# Altium integrated library TI Audio CODEC.IntLib: 199 symbols (part 3 of 17)
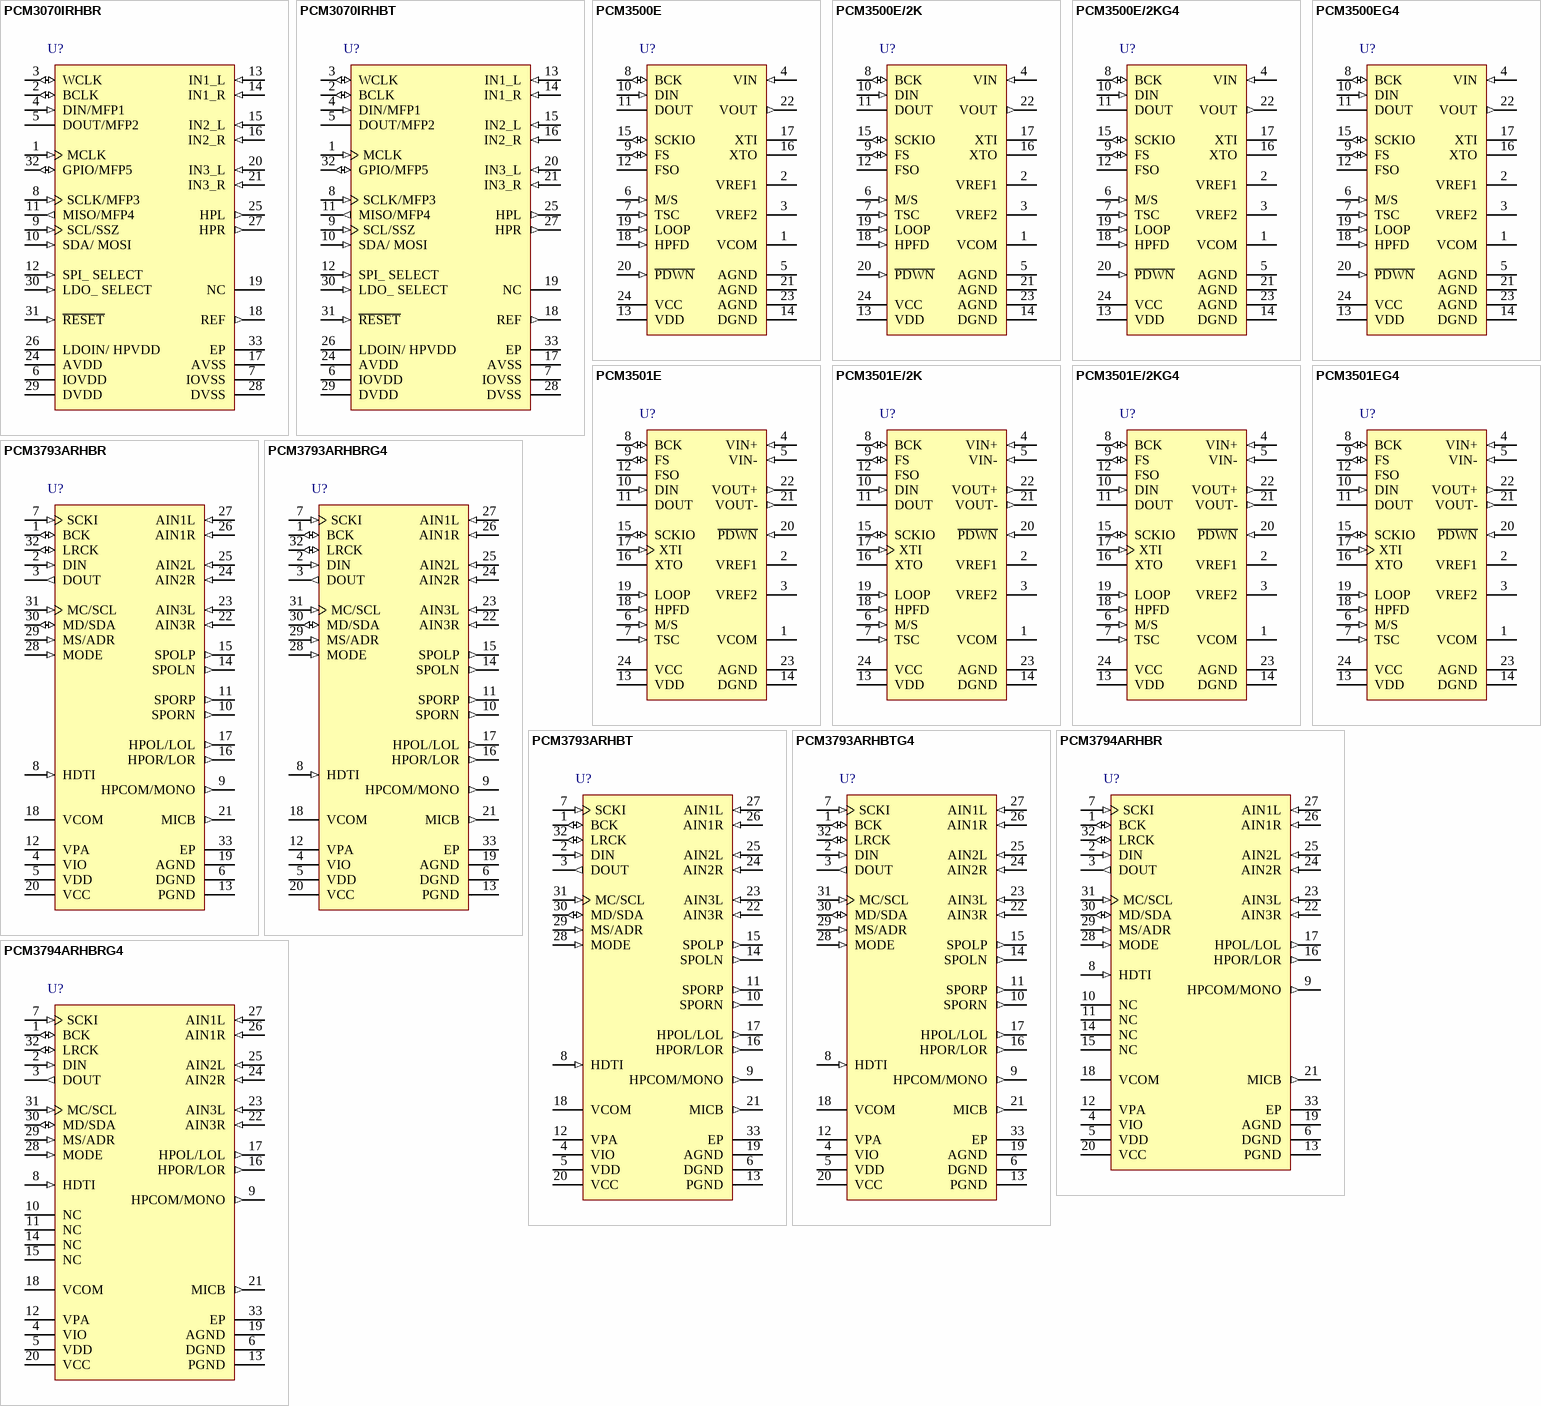
[diagram p15: symbols PCM3070IRHBR to PCM3794ARHBRG4]

## PCM3070IRHBR
designator U?
Stereo Audio CODEC with Embedded miniDSP, 2 ADCs and 2 DACs, 93 dB DAC SNR, 32-pin QFN (RHB), Green (RoHS & no Sb/Br); Manufacturer: Texas Instruments; PartNumber: PCM3070IRHBR; # ADCs (typ): 2; Additional Features: MiniDSP, Extensive Signal Processing Options, Programmable PLL, LDO (for single supply operation up to 3.6V); Control Interface: SPI, I2C; DAC SNR: 93; Digital Audio Interfaces: L, R, I2S, TDM, DSP; Line Powered: TRUE; Sampling Rate (Max) (kHz): 192; DatasheetVersion: SLAS724; PackageVersion: revD, Jun-2011; PackageReference: RHB32-3450X3450TP; PackageDescription: 32-Pin Plastic Quad Flat No-Lead, 5 x 5 mm Body, 0.5 mm Pitch, 3.45 x 3.45 mm Exposed Pad; Supplier 1: Digi-Key; Supplier Part Number 1: PCM3070IRHBR-ND; Supplier 2: Newark; Supplier Part Number 2: 32T2989; Supplier 3: Mouser; Supplier Part Number 3: 595-PCM3070IRHBR; # DACs: 2; Mounting Technology: Surface Mount; Code_JEDEC: MO-220; ComponentLink1Description: Datasheet; ComponentLink1URL: http://www.ti.com/general/docs/lit/getliterature.tsp?genericPartNumber=PCM3070&fileType=pdf
footprint RHB32-3450X3450TP (QFN, 32-Leads, Body 5x5mm, Pitch 0.5mm, Thermal Pad 3.45x3.45mm, TI Recommended)
pins: 1 MCLK (in) "Master Clock Input.", 2 BCLK (io) "Audio serial data bus (primary) bit clock.", 3 WCLK (io) "Audio serial data bus (primary) word clock.", 4 DIN/MFP1 (in) "Primary function,Audio serial data bus data input.Secondary function,Audio serial data bus (secondary) bit clock input Audio serial data bus (secondary) word clock input Clock Input General Purpose Input.", 5 DOUT/MFP2 (hiz) "Primary,Audio serial data bus data output.Secondary,General Purpose Output Clock Output INT1 Output INT2 Output Audio serial data bus (secondary) bit clock output Audio serial data bus (secondary) word clock output.", 6 IOVDD (power) "I/O voltage supply 1.1V - 3.6V.", 7 IOVSS (power) "I/O ground supply.", 8 SCLK/MFP3 (in) "Primary (SPI_Select = 1),SPI serial clock. Secondary: (SPI_Select = 0),Audio serial data bus (secondary) bit clock input Audio serial data bus (secondary) DAC/common word clock input Audio serial data bus (secondary) ADC (See Datasheet)", 9 SCL/SSZ (in) "I2C interface serial clock (SPI_Select = 0) SSZ SPI interface mode chip-select signal (SPI_Select = 1).", 10 SDA/ MOSI (in) "I2C interface mode serial data input (SPI_Select = 0). SPI interface mode serial data input (SPI_Select = 1).", 11 MISO/MFP4 (out) "Primary (SPI_Select = 1),Serial data output.Secondary (SPI_Select = 0),General purpose output CLKOUT output INT1 output INT2 output Audio serial data bus (primary) ADC word clock output Audio serial data bus (secondary) data (See Datasheet)", 12 SPI_ SELECT (in) "Control mode select pin ( 1 = SPI, 0 = I2C ).", 13 IN1_L (in) "Multifunction Analog Input, or Single-ended configuration: Line 1 left or Differential configuration: Line right, negative.", 14 IN1_R (in) "Multifunction Analog Input, or Single-ended configuration: or Line 1 right or Differential configuration: Line right, positive.", 15 IN2_L (in) "Multifunction Analog Input, or Single-ended configuration: Line 2 right or Differential configuration: Line left, positive.", 16 IN2_R (in) "Multifunction Analog Input, or Single-ended configuration: Line 2 right or Differential configuration: Line left, negative.", 17 AVSS (power) "Analog ground supply.", 18 REF (out) "Reference voltage output for filtering.", 19 NC "NC, do not connect.", 20 IN3_L (in) "Multifunction Analog Input, or Single-ended configuration: Line 3 left, or Differential configuration: Line left, positive, or Differential configuration: Line right, negative.", 21 IN3_R (in) "Multifunction Analog Input, or Single-ended configuration: Line 3 right, or Differential configuration: Line left, negative, or Differential configuration: Line right, positive.", 24 AVDD (power) "Analog voltage supply 1.5V-1.95V Input when A-LDO disabled, Filtering output when A-LDO enabled.", 25 HPL (out) "Left high power output driver.", 26 LDOIN/ HPVDD (power) "LDO Input supply and Headphone Power supply 1.9V- 3.6V.", 27 HPR (out) "Right high power output driver.", 28 DVSS (power) "?Digital Ground and Chip-substrate.", 29 DVDD (power) "If LDO_SELECT Pin = 0 (D-LDO disabled) Digital voltage supply 1.26V - 1.95V If LDO_SELECT Pin = 1 (D-LDO enabled) Digital voltage supply filtering output.", 30 LDO_ SELECT (in) "connect to DVss.", 31 ~{RESET} (in) "Reset (active low).", 32 GPIO/MFP5 (io) "Primary,General Purpose digital IO.Secondary,CLKOUT Output INT1 Output INT2 Output Audio serial data bus ADC word clock output Audio serial data bus (secondary) bit clock output Audio serial data bus (secondary) word clock (See Datasheet)", 33 EP "Exposed thermal pad."

## PCM3070IRHBT
designator U?
Stereo Audio CODEC with Embedded miniDSP, 2 ADCs and 2 DACs, 93 dB DAC SNR, 32-pin QFN (RHB), Green (RoHS & no Sb/Br); Manufacturer: Texas Instruments; PartNumber: PCM3070IRHBT; # ADCs (typ): 2; Additional Features: MiniDSP, Extensive Signal Processing Options, Programmable PLL, LDO (for single supply operation up to 3.6V); Control Interface: SPI, I2C; DAC SNR: 93; Digital Audio Interfaces: L, R, I2S, TDM, DSP; Line Powered: TRUE; Sampling Rate (Max) (kHz): 192; DatasheetVersion: SLAS724; PackageVersion: revD, Jun-2011; PackageReference: RHB32-3450X3450TP; PackageDescription: 32-Pin Plastic Quad Flat No-Lead, 5 x 5 mm Body, 0.5 mm Pitch, 3.45 x 3.45 mm Exposed Pad; Supplier 1: Digi-Key; Supplier Part Number 1: 296-28298-2-ND; Supplier 2: Digi-Key; Supplier Part Number 2: 296-28298-1-ND; Supplier 3: Digi-Key; Supplier Part Number 3: 296-28298-6-ND; Supplier 4: Farnell; Supplier Part Number 4: 1882269; Supplier 5: Newark; Supplier Part Number 5: 32T2990; Supplier 6: Mouser; Supplier Part Number 6: 595-PCM3070IRHBT; # DACs: 2; Mounting Technology: Surface Mount; Code_JEDEC: MO-220; ComponentLink1Description: Datasheet; ComponentLink1URL: http://www.ti.com/general/docs/lit/getliterature.tsp?genericPartNumber=PCM3070&fileType=pdf
footprint RHB32-3450X3450TP (QFN, 32-Leads, Body 5x5mm, Pitch 0.5mm, Thermal Pad 3.45x3.45mm, TI Recommended)
pins: 1 MCLK (in) "Master Clock Input.", 2 BCLK (io) "Audio serial data bus (primary) bit clock.", 3 WCLK (io) "Audio serial data bus (primary) word clock.", 4 DIN/MFP1 (in) "Primary function,Audio serial data bus data input.Secondary function,Audio serial data bus (secondary) bit clock input Audio serial data bus (secondary) word clock input Clock Input General Purpose Input.", 5 DOUT/MFP2 (hiz) "Primary,Audio serial data bus data output.Secondary,General Purpose Output Clock Output INT1 Output INT2 Output Audio serial data bus (secondary) bit clock output Audio serial data bus (secondary) word clock output.", 6 IOVDD (power) "I/O voltage supply 1.1V - 3.6V.", 7 IOVSS (power) "I/O ground supply.", 8 SCLK/MFP3 (in) "Primary (SPI_Select = 1),SPI serial clock. Secondary: (SPI_Select = 0),Audio serial data bus (secondary) bit clock input Audio serial data bus (secondary) DAC/common word clock input Audio serial data bus (secondary) ADC (See Datasheet)", 9 SCL/SSZ (in) "I2C interface serial clock (SPI_Select = 0) SSZ SPI interface mode chip-select signal (SPI_Select = 1).", 10 SDA/ MOSI (in) "I2C interface mode serial data input (SPI_Select = 0). SPI interface mode serial data input (SPI_Select = 1).", 11 MISO/MFP4 (out) "Primary (SPI_Select = 1),Serial data output.Secondary (SPI_Select = 0),General purpose output CLKOUT output INT1 output INT2 output Audio serial data bus (primary) ADC word clock output Audio serial data bus (secondary) data (See Datasheet)", 12 SPI_ SELECT (in) "Control mode select pin ( 1 = SPI, 0 = I2C ).", 13 IN1_L (in) "Multifunction Analog Input, or Single-ended configuration: Line 1 left or Differential configuration: Line right, negative.", 14 IN1_R (in) "Multifunction Analog Input, or Single-ended configuration: or Line 1 right or Differential configuration: Line right, positive.", 15 IN2_L (in) "Multifunction Analog Input, or Single-ended configuration: Line 2 right or Differential configuration: Line left, positive.", 16 IN2_R (in) "Multifunction Analog Input, or Single-ended configuration: Line 2 right or Differential configuration: Line left, negative.", 17 AVSS (power) "Analog ground supply.", 18 REF (out) "Reference voltage output for filtering.", 19 NC "NC, do not connect.", 20 IN3_L (in) "Multifunction Analog Input, or Single-ended configuration: Line 3 left, or Differential configuration: Line left, positive, or Differential configuration: Line right, negative.", 21 IN3_R (in) "Multifunction Analog Input, or Single-ended configuration: Line 3 right, or Differential configuration: Line left, negative, or Differential configuration: Line right, positive.", 24 AVDD (power) "Analog voltage supply 1.5V-1.95V Input when A-LDO disabled, Filtering output when A-LDO enabled.", 25 HPL (out) "Left high power output driver.", 26 LDOIN/ HPVDD (power) "LDO Input supply and Headphone Power supply 1.9V- 3.6V.", 27 HPR (out) "Right high power output driver.", 28 DVSS (power) "?Digital Ground and Chip-substrate.", 29 DVDD (power) "If LDO_SELECT Pin = 0 (D-LDO disabled) Digital voltage supply 1.26V - 1.95V If LDO_SELECT Pin = 1 (D-LDO enabled) Digital voltage supply filtering output.", 30 LDO_ SELECT (in) "connect to DVss.", 31 ~{RESET} (in) "Reset (active low).", 32 GPIO/MFP5 (io) "Primary,General Purpose digital IO.Secondary,CLKOUT Output INT1 Output INT2 Output Audio serial data bus ADC word clock output Audio serial data bus (secondary) bit clock output Audio serial data bus (secondary) word clock (See Datasheet)", 33 EP "Exposed thermal pad."

## PCM3500E
designator U?
Low Voltage, Low Power, 16-bit, Mono SoundPlus™ Voice / Modem CODEC with 1 ADC and 1 DAC, 92 dB DAC SNR, 24-pin SSOP (DB), Green (RoHS & no Sb/Br); Manufacturer: Texas Instruments; PartNumber: PCM3500E; # ADCs (typ): 1; Additional Features: Single-ended Inputs/Outputs; Battery Powered: TRUE; Control Interface: H/W; DAC SNR: 92; Digital Audio Interfaces: DSP; Sampling Rate (Max) (kHz): 26; DatasheetVersion: SBAS117; PackageVersion: revE, Dec-2001; PackageReference: DB24; PackageDescription: 24-Pin Plastic Small Outline Package, 8.2 x 5.3 mm Body, 0.65 mm Pitch; Supplier 1: Digi-Key; Supplier Part Number 1: PCM3500E-ND; Supplier 2: Newark; Supplier Part Number 2: 34K8602; Supplier 3: Mouser; Supplier Part Number 3: 595-PCM3500E; # DACs: 1; Mounting Technology: Surface Mount; Code_JEDEC: MO-150; ComponentLink1Description: Datasheet; ComponentLink1URL: http://www.ti.com/general/docs/lit/getliterature.tsp?genericPartNumber=PCM3500&fileType=pdf
footprint DB24_N (SOP, 24-Leads, Body 8.2x5.3mm, Pitch 0.65mm, IPC Medium Density)
footprint DB24_L (SOP, 24-Leads, Body 8.2x5.3mm, Pitch 0.65mm, IPC High Density)
footprint DB24_M (SOP, 24-Leads, Body 8.2x5.3mm, Pitch 0.65mm, IPC Low Density)
pins: 1 VCOM "Common-Mode Voltage (0.5VCC). This pin should be connected to ground through a capacitor.", 2 VREF1 "Decouple Pin for Reference Voltage 1 (0.99VCC). This pin should be connected to ground through a capacitor.", 3 VREF2 "Decouple Pin for Reference Voltage 2 (0.2VCC). This pin should be connected to ground through a capacitor.", 4 VIN (in) "Analog Input for the ADC.", 5 AGND (power) "Analog Ground for the ADC Input Signal.", 6 M/S (in) "Master/Slave Select. This pin is used to determine the operating mode for the serial interface. A logic ‘0’ on this pin selects the Slave Mode.A logic '1' on this pin selects the Master Mode.", 7 TSC (in) "Time Slot Mode Control. This pin is used to select the time slot operating mode. A logic ‘0’ on this pin disables Time Slot Mode. A logic  '1' on this pin enables Time Slot Mode.", 8 BCK (io) "Bit Clock. This pin serves as the bit (or shift) clock for the serial interface. This pin is an input in Slave Mode and an output in Master  Mode.", 9 FS (io) "Frame Sync. This pin serves as the frame synchronization clock for the serial interface. This pin is an input in Slave Mode and an output in Master Mode.", 10 DIN (in) "Serial Data Input. This pin is used to write 16-bit data to the DAC.", 11 DOUT (hiz) "Serial Data Output. The ADC outputs 16-bit data on this pin.", 12 FSO (hiz) "Frame Sync Output. Active only when Time Slot Mode is enabled. This pin is set to a high impedance state when Time Slot mode is disabled(TSC=0).", 13 VDD (power) "Digital Power Supply. Used to power the digital section of the ADC and DAC, as well as the serial interface and mode control logic.This pin is not internally connected to VCC.", 14 DGND (power) "Digital Ground. Internally connected through the substrate to analog ground.", 15 SCKIO (io) "System Clock Input/Output. This pin is a system clock output when using the crystal oscillator or XTI as the system clock input; when XTI is connected to ground,this pin is a system clock input.", 16 XTO "Crystal Oscillator Output.", 17 XTI "Crystal Oscillator Input or an External System Clock Input.", 18 HPFD (in) "High-Pass Filter Disable. When this pin is set to a logic ‘1’, the HPF function in the ADC is disabled.", 19 LOOP (in) "ADC-to-DAC Loop-Back Control. When this pin is set to logic ‘1’, the ADC data is fed to the DAC input.", 20 ~{PDWN} (in) "Power Down and Reset Control. When this pin is logic ‘0’, Power-Down Mode is enabled. The PCM3500 is reset on the rising edge of this signal.", 21 AGND (power) "Analog Ground for the DAC Output Signal.", 22 VOUT (out) "Analog Output from the DAC Output Filter.", 23 AGND (power) "Analog Ground. This is the ground for the internal analog circuitry.", 24 VCC (power) "Analog Power Supply. Used to power the analog circuitry of the ADC and DAC."

## PCM3500E/2K
designator U?
Low Voltage, Low Power, 16-bit, Mono SoundPlus™ Voice / Modem CODEC with 1 ADC and 1 DAC, 92 dB DAC SNR, 24-pin SSOP (DB), Green (RoHS & no Sb/Br); Manufacturer: Texas Instruments; PartNumber: PCM3500E/2K; # ADCs (typ): 1; Additional Features: Single-ended Inputs/Outputs; Battery Powered: TRUE; Control Interface: H/W; DAC SNR: 92; Digital Audio Interfaces: DSP; Sampling Rate (Max) (kHz): 26; DatasheetVersion: SBAS117; PackageVersion: revE, Dec-2001; PackageReference: DB24; PackageDescription: 24-Pin Plastic Small Outline Package, 8.2 x 5.3 mm Body, 0.65 mm Pitch; Supplier 1: Digi-Key; Supplier Part Number 1: PCM3500E/2K-ND; Supplier 2: Newark; Supplier Part Number 2: 75C5396; Supplier 3: Mouser; Supplier Part Number 3: 595-PCM3500E/2K; # DACs: 1; Mounting Technology: Surface Mount; Code_JEDEC: MO-150; ComponentLink1Description: Datasheet; ComponentLink1URL: http://www.ti.com/general/docs/lit/getliterature.tsp?genericPartNumber=PCM3500&fileType=pdf
footprint DB24_N (SOP, 24-Leads, Body 8.2x5.3mm, Pitch 0.65mm, IPC Medium Density)
footprint DB24_L (SOP, 24-Leads, Body 8.2x5.3mm, Pitch 0.65mm, IPC High Density)
footprint DB24_M (SOP, 24-Leads, Body 8.2x5.3mm, Pitch 0.65mm, IPC Low Density)
pins: 1 VCOM "Common-Mode Voltage (0.5VCC). This pin should be connected to ground through a capacitor.", 2 VREF1 "Decouple Pin for Reference Voltage 1 (0.99VCC). This pin should be connected to ground through a capacitor.", 3 VREF2 "Decouple Pin for Reference Voltage 2 (0.2VCC). This pin should be connected to ground through a capacitor.", 4 VIN (in) "Analog Input for the ADC.", 5 AGND (power) "Analog Ground for the ADC Input Signal.", 6 M/S (in) "Master/Slave Select. This pin is used to determine the operating mode for the serial interface. A logic ‘0’ on this pin selects the Slave Mode.A logic '1' on this pin selects the Master Mode.", 7 TSC (in) "Time Slot Mode Control. This pin is used to select the time slot operating mode. A logic ‘0’ on this pin disables Time Slot Mode. A logic  '1' on this pin enables Time Slot Mode.", 8 BCK (io) "Bit Clock. This pin serves as the bit (or shift) clock for the serial interface. This pin is an input in Slave Mode and an output in Master  Mode.", 9 FS (io) "Frame Sync. This pin serves as the frame synchronization clock for the serial interface. This pin is an input in Slave Mode and an output in Master Mode.", 10 DIN (in) "Serial Data Input. This pin is used to write 16-bit data to the DAC.", 11 DOUT (hiz) "Serial Data Output. The ADC outputs 16-bit data on this pin.", 12 FSO (hiz) "Frame Sync Output. Active only when Time Slot Mode is enabled. This pin is set to a high impedance state when Time Slot mode is disabled(TSC=0).", 13 VDD (power) "Digital Power Supply. Used to power the digital section of the ADC and DAC, as well as the serial interface and mode control logic.This pin is not internally connected to VCC.", 14 DGND (power) "Digital Ground. Internally connected through the substrate to analog ground.", 15 SCKIO (io) "System Clock Input/Output. This pin is a system clock output when using the crystal oscillator or XTI as the system clock input; when XTI is connected to ground,this pin is a system clock input.", 16 XTO "Crystal Oscillator Output.", 17 XTI "Crystal Oscillator Input or an External System Clock Input.", 18 HPFD (in) "High-Pass Filter Disable. When this pin is set to a logic ‘1’, the HPF function in the ADC is disabled.", 19 LOOP (in) "ADC-to-DAC Loop-Back Control. When this pin is set to logic ‘1’, the ADC data is fed to the DAC input.", 20 ~{PDWN} (in) "Power Down and Reset Control. When this pin is logic ‘0’, Power-Down Mode is enabled. The PCM3500 is reset on the rising edge of this signal.", 21 AGND (power) "Analog Ground for the DAC Output Signal.", 22 VOUT (out) "Analog Output from the DAC Output Filter.", 23 AGND (power) "Analog Ground. This is the ground for the internal analog circuitry.", 24 VCC (power) "Analog Power Supply. Used to power the analog circuitry of the ADC and DAC."

## PCM3500E/2KG4
designator U?
Low Voltage, Low Power, 16-Bit, Mono SoundPlus™ Voice / Modem CODEC with 1 ADC and 1 DAC, 92 dB DAC SNR, 24-pin SSOP (DB), Green (RoHS & no Sb/Br); Manufacturer: Texas Instruments; PartNumber: PCM3500E/2KG4; # ADCs (typ): 1; Additional Features: Single-ended Inputs/Outputs; Battery Powered: TRUE; Control Interface: H/W; DAC SNR: 92; Digital Audio Interfaces: DSP; Sampling Rate (Max) (kHz): 26; DatasheetVersion: SBAS117; PackageVersion: revE, Dec-2001; PackageReference: DB24; PackageDescription: 24-Pin Plastic Small Outline Package, 8.2 x 5.3 mm Body, 0.65 mm Pitch; Supplier 1: Digi-Key; Supplier Part Number 1: PCM3500E/2KG4-ND; Supplier 2: Newark; Supplier Part Number 2: 66K4101; Supplier 3: Mouser; Supplier Part Number 3: 595-PCM3500E/2KG4; # DACs: 1; Mounting Technology: Surface Mount; Code_JEDEC: MO-150; ComponentLink1Description: Datasheet; ComponentLink1URL: http://www.ti.com/general/docs/lit/getliterature.tsp?genericPartNumber=PCM3500&fileType=pdf
footprint DB24_N (SOP, 24-Leads, Body 8.2x5.3mm, Pitch 0.65mm, IPC Medium Density)
footprint DB24_L (SOP, 24-Leads, Body 8.2x5.3mm, Pitch 0.65mm, IPC High Density)
footprint DB24_M (SOP, 24-Leads, Body 8.2x5.3mm, Pitch 0.65mm, IPC Low Density)
pins: 1 VCOM "Common-Mode Voltage (0.5VCC). This pin should be connected to ground through a capacitor.", 2 VREF1 "Decouple Pin for Reference Voltage 1 (0.99VCC). This pin should be connected to ground through a capacitor.", 3 VREF2 "Decouple Pin for Reference Voltage 2 (0.2VCC). This pin should be connected to ground through a capacitor.", 4 VIN (in) "Analog Input for the ADC.", 5 AGND (power) "Analog Ground for the ADC Input Signal.", 6 M/S (in) "Master/Slave Select. This pin is used to determine the operating mode for the serial interface. A logic ‘0’ on this pin selects the Slave Mode.A logic '1' on this pin selects the Master Mode.", 7 TSC (in) "Time Slot Mode Control. This pin is used to select the time slot operating mode. A logic ‘0’ on this pin disables Time Slot Mode. A logic  '1' on this pin enables Time Slot Mode.", 8 BCK (io) "Bit Clock. This pin serves as the bit (or shift) clock for the serial interface. This pin is an input in Slave Mode and an output in Master  Mode.", 9 FS (io) "Frame Sync. This pin serves as the frame synchronization clock for the serial interface. This pin is an input in Slave Mode and an output in Master Mode.", 10 DIN (in) "Serial Data Input. This pin is used to write 16-bit data to the DAC.", 11 DOUT (hiz) "Serial Data Output. The ADC outputs 16-bit data on this pin.", 12 FSO (hiz) "Frame Sync Output. Active only when Time Slot Mode is enabled. This pin is set to a high impedance state when Time Slot mode is disabled(TSC=0).", 13 VDD (power) "Digital Power Supply. Used to power the digital section of the ADC and DAC, as well as the serial interface and mode control logic.This pin is not internally connected to VCC.", 14 DGND (power) "Digital Ground. Internally connected through the substrate to analog ground.", 15 SCKIO (io) "System Clock Input/Output. This pin is a system clock output when using the crystal oscillator or XTI as the system clock input; when XTI is connected to ground,this pin is a system clock input.", 16 XTO "Crystal Oscillator Output.", 17 XTI "Crystal Oscillator Input or an External System Clock Input.", 18 HPFD (in) "High-Pass Filter Disable. When this pin is set to a logic ‘1’, the HPF function in the ADC is disabled.", 19 LOOP (in) "ADC-to-DAC Loop-Back Control. When this pin is set to logic ‘1’, the ADC data is fed to the DAC input.", 20 ~{PDWN} (in) "Power Down and Reset Control. When this pin is logic ‘0’, Power-Down Mode is enabled. The PCM3500 is reset on the rising edge of this signal.", 21 AGND (power) "Analog Ground for the DAC Output Signal.", 22 VOUT (out) "Analog Output from the DAC Output Filter.", 23 AGND (power) "Analog Ground. This is the ground for the internal analog circuitry.", 24 VCC (power) "Analog Power Supply. Used to power the analog circuitry of the ADC and DAC."

## PCM3500EG4
designator U?
Low Voltage, Low Power, 16-Bit, Mono SoundPlus™ Voice / Modem CODEC with 1 ADC and 1 DAC, 92 dB DAC SNR, 24-pin SSOP (DB), Green (RoHS & no Sb/Br); Manufacturer: Texas Instruments; PartNumber: PCM3500EG4; # ADCs (typ): 1; Additional Features: Single-ended Inputs/Outputs; Battery Powered: TRUE; Control Interface: H/W; DAC SNR: 92; Digital Audio Interfaces: DSP; Sampling Rate (Max) (kHz): 26; DatasheetVersion: SBAS117; PackageVersion: revE, Dec-2001; PackageReference: DB24; PackageDescription: 24-Pin Plastic Small Outline Package, 8.2 x 5.3 mm Body, 0.65 mm Pitch; Supplier 1: Digi-Key; Supplier Part Number 1: PCM3500EG4-ND; Supplier 2: Farnell; Supplier Part Number 2: 1207092; Supplier 3: Newark; Supplier Part Number 3: 97K7007; Supplier 4: Newark; Supplier Part Number 4: 66K4102; Supplier 5: Mouser; Supplier Part Number 5: 595-PCM3500EG4; # DACs: 1; Mounting Technology: Surface Mount; Code_JEDEC: MO-150; ComponentLink1Description: Datasheet; ComponentLink1URL: http://www.ti.com/general/docs/lit/getliterature.tsp?genericPartNumber=PCM3500&fileType=pdf
footprint DB24_N (SOP, 24-Leads, Body 8.2x5.3mm, Pitch 0.65mm, IPC Medium Density)
footprint DB24_L (SOP, 24-Leads, Body 8.2x5.3mm, Pitch 0.65mm, IPC High Density)
footprint DB24_M (SOP, 24-Leads, Body 8.2x5.3mm, Pitch 0.65mm, IPC Low Density)
pins: 1 VCOM "Common-Mode Voltage (0.5VCC). This pin should be connected to ground through a capacitor.", 2 VREF1 "Decouple Pin for Reference Voltage 1 (0.99VCC). This pin should be connected to ground through a capacitor.", 3 VREF2 "Decouple Pin for Reference Voltage 2 (0.2VCC). This pin should be connected to ground through a capacitor.", 4 VIN (in) "Analog Input for the ADC.", 5 AGND (power) "Analog Ground for the ADC Input Signal.", 6 M/S (in) "Master/Slave Select. This pin is used to determine the operating mode for the serial interface. A logic ‘0’ on this pin selects the Slave Mode.A logic '1' on this pin selects the Master Mode.", 7 TSC (in) "Time Slot Mode Control. This pin is used to select the time slot operating mode. A logic ‘0’ on this pin disables Time Slot Mode. A logic  '1' on this pin enables Time Slot Mode.", 8 BCK (io) "Bit Clock. This pin serves as the bit (or shift) clock for the serial interface. This pin is an input in Slave Mode and an output in Master  Mode.", 9 FS (io) "Frame Sync. This pin serves as the frame synchronization clock for the serial interface. This pin is an input in Slave Mode and an output in Master Mode.", 10 DIN (in) "Serial Data Input. This pin is used to write 16-bit data to the DAC.", 11 DOUT (hiz) "Serial Data Output. The ADC outputs 16-bit data on this pin.", 12 FSO (hiz) "Frame Sync Output. Active only when Time Slot Mode is enabled. This pin is set to a high impedance state when Time Slot mode is disabled(TSC=0).", 13 VDD (power) "Digital Power Supply. Used to power the digital section of the ADC and DAC, as well as the serial interface and mode control logic.This pin is not internally connected to VCC.", 14 DGND (power) "Digital Ground. Internally connected through the substrate to analog ground.", 15 SCKIO (io) "System Clock Input/Output. This pin is a system clock output when using the crystal oscillator or XTI as the system clock input; when XTI is connected to ground,this pin is a system clock input.", 16 XTO "Crystal Oscillator Output.", 17 XTI "Crystal Oscillator Input or an External System Clock Input.", 18 HPFD (in) "High-Pass Filter Disable. When this pin is set to a logic ‘1’, the HPF function in the ADC is disabled.", 19 LOOP (in) "ADC-to-DAC Loop-Back Control. When this pin is set to logic ‘1’, the ADC data is fed to the DAC input.", 20 ~{PDWN} (in) "Power Down and Reset Control. When this pin is logic ‘0’, Power-Down Mode is enabled. The PCM3500 is reset on the rising edge of this signal.", 21 AGND (power) "Analog Ground for the DAC Output Signal.", 22 VOUT (out) "Analog Output from the DAC Output Filter.", 23 AGND (power) "Analog Ground. This is the ground for the internal analog circuitry.", 24 VCC (power) "Analog Power Supply. Used to power the analog circuitry of the ADC and DAC."

## PCM3501E
designator U?
Low Voltage, Low Power, 16-bit, Mono SoundPlus™ Voice / Modem CODEC with 1 ADC and 1 DAC, 92 dB DAC SNR, 24-pin SSOP (DB), Green (RoHS & no Sb/Br); Manufacturer: Texas Instruments; PartNumber: PCM3501E; # ADCs (typ): 1; Additional Features: Differential Inputs/Outputs; Battery Powered: TRUE; Control Interface: H/W; DAC SNR: 92; Digital Audio Interfaces: DSP; Sampling Rate (Max) (kHz): 26; DatasheetVersion: SBAS137; PackageVersion: revE, Dec-2001; PackageReference: DB24; PackageDescription: 24-Pin Plastic Small Outline Package, 8.2 x 5.3 mm Body, 0.65 mm Pitch; Supplier 1: Digi-Key; Supplier Part Number 1: PCM3501E-ND; Supplier 2: Newark; Supplier Part Number 2: 75C5397; Supplier 3: Mouser; Supplier Part Number 3: 595-PCM3501E; # DACs: 1; Mounting Technology: Surface Mount; Code_JEDEC: MO-150; ComponentLink1Description: Datasheet; ComponentLink1URL: http://www.ti.com/general/docs/lit/getliterature.tsp?genericPartNumber=PCM3501&fileType=pdf
footprint DB24_N (SOP, 24-Leads, Body 8.2x5.3mm, Pitch 0.65mm, IPC Medium Density)
footprint DB24_L (SOP, 24-Leads, Body 8.2x5.3mm, Pitch 0.65mm, IPC High Density)
footprint DB24_M (SOP, 24-Leads, Body 8.2x5.3mm, Pitch 0.65mm, IPC Low Density)
pins: 1 VCOM "Common-Mode Voltage (0.5VCC). This pin should be connected to ground through a capacitor.", 2 VREF1 "Decouple Pin for Reference Voltage 1 (0.99VCC). This pin should be connected to ground through a capacitor.", 3 VREF2 "Decouple Pin for Reference Voltage 2 (0.2VCC). This pin should be connected to ground through a capacitor.", 4 VIN+ (in) "Non-Inverting input to on-chip AFE.", 5 VIN- (in) "Inverting input to on-chip AFE.", 6 M/S (in) "Master/Slave Select. This pin is used to determine the operating mode for the serial interface. A logic ‘0’ on this pin selects the Slave Mode. A logic ‘1’ on this pin selects the Master Mode.", 7 TSC (in) "Time Slot Mode Control. This pin is used to select the time slot operating mode. A logic ‘0’ on this pin disables Time Slot Mode. A logic ‘1’ on this pin enables Time Slot Mode.", 8 BCK (io) "Bit Clock. This pin serves as the bit (or shift) clock for the serial interface. This pin is an input in Slave Mode and an output in Master Mode.", 9 FS (io) "Frame Sync. This pin serves as the frame synchronization clock for the serial interface. This pin is an input in Slave Mode and an output in Master Mode.", 10 DIN (in) "Serial Data Input. This pin is used to write 16-bit data to the DAC.", 11 DOUT (hiz) "Serial Data Output. The ADC outputs 16-bit data on this pin.", 12 FSO (hiz) "Frame Sync Output. Active only when Time Slot Mode is enabled. This pin is set to a high impedance state when Time Slot mode is disabled (TSC = 0).", 13 VDD (power) "Digital Power Supply. Used to power the digital section of the ADC and DAC, as well as the serial interface and mode control logic. This pin is not internally connected to VCC.", 14 DGND (power) "Digital Ground. Internally connected through the substrate to analog ground.", 15 SCKIO (io) "System Clock Input/Output. This pin is a system clock output when using the crystal oscillator or XTI as the system clock input; when XTI is connected to ground, this pin is a system clock input.", 16 XTO "Crystal Oscillator Output.", 17 XTI (in) "Crystal Oscillator Input or an External System Clock Input.", 18 HPFD (in) "High-Pass Filter Disable. When this pin is set to a logic ‘1’, the HPF function in the ADC is disabled.", 19 LOOP (in) "ADC-to-DAC Loop-Back Control. When this pin is set to logic ‘1’, the ADC data is fed to the DAC input.", 20 ~{PDWN} (in) "Power Down and Reset Control. When this pin is logic ‘0’, Power-Down Mode is enabled. The PCM3500 is reset on the rising edge of this signal.", 21 VOUT- (out) "Inverting output.", 22 VOUT+ (out) "Non-inverting output.", 23 AGND (power) "Analog Ground. This is the ground for the internal analog circuitry.", 24 VCC (power) "Analog Power Supply. Used to power the analog circuitry of the ADC and DAC."

## PCM3501E/2K
designator U?
Low Voltage, Low Power, 16-bit, Mono SoundPlus™ Voice / Modem CODEC with 1 ADC and 1 DAC, 92 dB DAC SNR, 24-pin SSOP (DB), Green (RoHS & no Sb/Br); Manufacturer: Texas Instruments; PartNumber: PCM3501E/2K; # ADCs (typ): 1; Additional Features: Differential Inputs/Outputs; Battery Powered: TRUE; Control Interface: H/W; DAC SNR: 92; Digital Audio Interfaces: DSP; Sampling Rate (Max) (kHz): 26; DatasheetVersion: SBAS137; PackageVersion: revE, Dec-2001; PackageReference: DB24; PackageDescription: 24-Pin Plastic Small Outline Package, 8.2 x 5.3 mm Body, 0.65 mm Pitch; Supplier 1: Digi-Key; Supplier Part Number 1: PCM3501E/2K-ND; Supplier 2: Newark; Supplier Part Number 2: 75C5398; Supplier 3: Mouser; Supplier Part Number 3: 595-PCM3501E/2K; # DACs: 1; Mounting Technology: Surface Mount; Code_JEDEC: MO-150; ComponentLink1Description: Datasheet; ComponentLink1URL: http://www.ti.com/general/docs/lit/getliterature.tsp?genericPartNumber=PCM3501&fileType=pdf
footprint DB24_N (SOP, 24-Leads, Body 8.2x5.3mm, Pitch 0.65mm, IPC Medium Density)
footprint DB24_L (SOP, 24-Leads, Body 8.2x5.3mm, Pitch 0.65mm, IPC High Density)
footprint DB24_M (SOP, 24-Leads, Body 8.2x5.3mm, Pitch 0.65mm, IPC Low Density)
pins: 1 VCOM "Common-Mode Voltage (0.5VCC). This pin should be connected to ground through a capacitor.", 2 VREF1 "Decouple Pin for Reference Voltage 1 (0.99VCC). This pin should be connected to ground through a capacitor.", 3 VREF2 "Decouple Pin for Reference Voltage 2 (0.2VCC). This pin should be connected to ground through a capacitor.", 4 VIN+ (in) "Non-Inverting input to on-chip AFE.", 5 VIN- (in) "Inverting input to on-chip AFE.", 6 M/S (in) "Master/Slave Select. This pin is used to determine the operating mode for the serial interface. A logic ‘0’ on this pin selects the Slave Mode. A logic ‘1’ on this pin selects the Master Mode.", 7 TSC (in) "Time Slot Mode Control. This pin is used to select the time slot operating mode. A logic ‘0’ on this pin disables Time Slot Mode. A logic ‘1’ on this pin enables Time Slot Mode.", 8 BCK (io) "Bit Clock. This pin serves as the bit (or shift) clock for the serial interface. This pin is an input in Slave Mode and an output in Master Mode.", 9 FS (io) "Frame Sync. This pin serves as the frame synchronization clock for the serial interface. This pin is an input in Slave Mode and an output in Master Mode.", 10 DIN (in) "Serial Data Input. This pin is used to write 16-bit data to the DAC.", 11 DOUT (hiz) "Serial Data Output. The ADC outputs 16-bit data on this pin.", 12 FSO (hiz) "Frame Sync Output. Active only when Time Slot Mode is enabled. This pin is set to a high impedance state when Time Slot mode is disabled (TSC = 0).", 13 VDD (power) "Digital Power Supply. Used to power the digital section of the ADC and DAC, as well as the serial interface and mode control logic. This pin is not internally connected to VCC.", 14 DGND (power) "Digital Ground. Internally connected through the substrate to analog ground.", 15 SCKIO (io) "System Clock Input/Output. This pin is a system clock output when using the crystal oscillator or XTI as the system clock input; when XTI is connected to ground, this pin is a system clock input.", 16 XTO "Crystal Oscillator Output.", 17 XTI (in) "Crystal Oscillator Input or an External System Clock Input.", 18 HPFD (in) "High-Pass Filter Disable. When this pin is set to a logic ‘1’, the HPF function in the ADC is disabled.", 19 LOOP (in) "ADC-to-DAC Loop-Back Control. When this pin is set to logic ‘1’, the ADC data is fed to the DAC input.", 20 ~{PDWN} (in) "Power Down and Reset Control. When this pin is logic ‘0’, Power-Down Mode is enabled. The PCM3500 is reset on the rising edge of this signal.", 21 VOUT- (out) "Inverting output.", 22 VOUT+ (out) "Non-inverting output.", 23 AGND (power) "Analog Ground. This is the ground for the internal analog circuitry.", 24 VCC (power) "Analog Power Supply. Used to power the analog circuitry of the ADC and DAC."

## PCM3501E/2KG4
designator U?
Low Voltage, Low Power, 16-bit, Mono SoundPlus™ Voice / Modem CODEC with 1 ADC and 1 DAC, 92 dB DAC SNR, 24-pin SSOP (DB), Green (RoHS & no Sb/Br); Manufacturer: Texas Instruments; PartNumber: PCM3501E/2KG4; # ADCs (typ): 1; Additional Features: Differential Inputs/Outputs; Battery Powered: TRUE; Control Interface: H/W; DAC SNR: 92; Digital Audio Interfaces: DSP; Sampling Rate (Max) (kHz): 26; DatasheetVersion: SBAS137; PackageVersion: revE, Dec-2001; PackageReference: DB24; PackageDescription: 24-Pin Plastic Small Outline Package, 8.2 x 5.3 mm Body, 0.65 mm Pitch; Supplier 1: Digi-Key; Supplier Part Number 1: PCM3501E/2KG4-ND; Supplier 2: Newark; Supplier Part Number 2: 66K4103; Supplier 3: Mouser; Supplier Part Number 3: 595-PCM3501E/2KG4; # DACs: 1; Mounting Technology: Surface Mount; Code_JEDEC: MO-150; ComponentLink1Description: Datasheet; ComponentLink1URL: http://www.ti.com/general/docs/lit/getliterature.tsp?genericPartNumber=PCM3501&fileType=pdf
footprint DB24_N (SOP, 24-Leads, Body 8.2x5.3mm, Pitch 0.65mm, IPC Medium Density)
footprint DB24_L (SOP, 24-Leads, Body 8.2x5.3mm, Pitch 0.65mm, IPC High Density)
footprint DB24_M (SOP, 24-Leads, Body 8.2x5.3mm, Pitch 0.65mm, IPC Low Density)
pins: 1 VCOM "Common-Mode Voltage (0.5VCC). This pin should be connected to ground through a capacitor.", 2 VREF1 "Decouple Pin for Reference Voltage 1 (0.99VCC). This pin should be connected to ground through a capacitor.", 3 VREF2 "Decouple Pin for Reference Voltage 2 (0.2VCC). This pin should be connected to ground through a capacitor.", 4 VIN+ (in) "Non-Inverting input to on-chip AFE.", 5 VIN- (in) "Inverting input to on-chip AFE.", 6 M/S (in) "Master/Slave Select. This pin is used to determine the operating mode for the serial interface. A logic ‘0’ on this pin selects the Slave Mode. A logic ‘1’ on this pin selects the Master Mode.", 7 TSC (in) "Time Slot Mode Control. This pin is used to select the time slot operating mode. A logic ‘0’ on this pin disables Time Slot Mode. A logic ‘1’ on this pin enables Time Slot Mode.", 8 BCK (io) "Bit Clock. This pin serves as the bit (or shift) clock for the serial interface. This pin is an input in Slave Mode and an output in Master Mode.", 9 FS (io) "Frame Sync. This pin serves as the frame synchronization clock for the serial interface. This pin is an input in Slave Mode and an output in Master Mode.", 10 DIN (in) "Serial Data Input. This pin is used to write 16-bit data to the DAC.", 11 DOUT (hiz) "Serial Data Output. The ADC outputs 16-bit data on this pin.", 12 FSO (hiz) "Frame Sync Output. Active only when Time Slot Mode is enabled. This pin is set to a high impedance state when Time Slot mode is disabled (TSC = 0).", 13 VDD (power) "Digital Power Supply. Used to power the digital section of the ADC and DAC, as well as the serial interface and mode control logic. This pin is not internally connected to VCC.", 14 DGND (power) "Digital Ground. Internally connected through the substrate to analog ground.", 15 SCKIO (io) "System Clock Input/Output. This pin is a system clock output when using the crystal oscillator or XTI as the system clock input; when XTI is connected to ground, this pin is a system clock input.", 16 XTO "Crystal Oscillator Output.", 17 XTI (in) "Crystal Oscillator Input or an External System Clock Input.", 18 HPFD (in) "High-Pass Filter Disable. When this pin is set to a logic ‘1’, the HPF function in the ADC is disabled.", 19 LOOP (in) "ADC-to-DAC Loop-Back Control. When this pin is set to logic ‘1’, the ADC data is fed to the DAC input.", 20 ~{PDWN} (in) "Power Down and Reset Control. When this pin is logic ‘0’, Power-Down Mode is enabled. The PCM3500 is reset on the rising edge of this signal.", 21 VOUT- (out) "Inverting output.", 22 VOUT+ (out) "Non-inverting output.", 23 AGND (power) "Analog Ground. This is the ground for the internal analog circuitry.", 24 VCC (power) "Analog Power Supply. Used to power the analog circuitry of the ADC and DAC."

## PCM3501EG4
designator U?
Low Voltage, Low Power, 16-bit, Mono SoundPlus™ Voice / Modem CODEC with 1 ADC and 1 DAC, 92 dB DAC SNR, 24-pin SSOP (DB), Green (RoHS & no Sb/Br); Manufacturer: Texas Instruments; PartNumber: PCM3501EG4; # ADCs (typ): 1; Additional Features: Differential Inputs/Outputs; Battery Powered: TRUE; Control Interface: H/W; DAC SNR: 92; Digital Audio Interfaces: DSP; Sampling Rate (Max) (kHz): 26; DatasheetVersion: SBAS137; PackageVersion: revE, Dec-2001; PackageReference: DB24; PackageDescription: 24-Pin Plastic Small Outline Package, 8.2 x 5.3 mm Body, 0.65 mm Pitch; Supplier 1: Digi-Key; Supplier Part Number 1: PCM3501EG4-ND; Supplier 2: Newark; Supplier Part Number 2: 66K4104; Supplier 3: Mouser; Supplier Part Number 3: 595-PCM3501EG4; # DACs: 1; Mounting Technology: Surface Mount; Code_JEDEC: MO-150; ComponentLink1Description: Datasheet; ComponentLink1URL: http://www.ti.com/general/docs/lit/getliterature.tsp?genericPartNumber=PCM3501&fileType=pdf
footprint DB24_N (SOP, 24-Leads, Body 8.2x5.3mm, Pitch 0.65mm, IPC Medium Density)
footprint DB24_L (SOP, 24-Leads, Body 8.2x5.3mm, Pitch 0.65mm, IPC High Density)
footprint DB24_M (SOP, 24-Leads, Body 8.2x5.3mm, Pitch 0.65mm, IPC Low Density)
pins: 1 VCOM "Common-Mode Voltage (0.5VCC). This pin should be connected to ground through a capacitor.", 2 VREF1 "Decouple Pin for Reference Voltage 1 (0.99VCC). This pin should be connected to ground through a capacitor.", 3 VREF2 "Decouple Pin for Reference Voltage 2 (0.2VCC). This pin should be connected to ground through a capacitor.", 4 VIN+ (in) "Non-Inverting input to on-chip AFE.", 5 VIN- (in) "Inverting input to on-chip AFE.", 6 M/S (in) "Master/Slave Select. This pin is used to determine the operating mode for the serial interface. A logic ‘0’ on this pin selects the Slave Mode. A logic ‘1’ on this pin selects the Master Mode.", 7 TSC (in) "Time Slot Mode Control. This pin is used to select the time slot operating mode. A logic ‘0’ on this pin disables Time Slot Mode. A logic ‘1’ on this pin enables Time Slot Mode.", 8 BCK (io) "Bit Clock. This pin serves as the bit (or shift) clock for the serial interface. This pin is an input in Slave Mode and an output in Master Mode.", 9 FS (io) "Frame Sync. This pin serves as the frame synchronization clock for the serial interface. This pin is an input in Slave Mode and an output in Master Mode.", 10 DIN (in) "Serial Data Input. This pin is used to write 16-bit data to the DAC.", 11 DOUT (hiz) "Serial Data Output. The ADC outputs 16-bit data on this pin.", 12 FSO (hiz) "Frame Sync Output. Active only when Time Slot Mode is enabled. This pin is set to a high impedance state when Time Slot mode is disabled (TSC = 0).", 13 VDD (power) "Digital Power Supply. Used to power the digital section of the ADC and DAC, as well as the serial interface and mode control logic. This pin is not internally connected to VCC.", 14 DGND (power) "Digital Ground. Internally connected through the substrate to analog ground.", 15 SCKIO (io) "System Clock Input/Output. This pin is a system clock output when using the crystal oscillator or XTI as the system clock input; when XTI is connected to ground, this pin is a system clock input.", 16 XTO "Crystal Oscillator Output.", 17 XTI (in) "Crystal Oscillator Input or an External System Clock Input.", 18 HPFD (in) "High-Pass Filter Disable. When this pin is set to a logic ‘1’, the HPF function in the ADC is disabled.", 19 LOOP (in) "ADC-to-DAC Loop-Back Control. When this pin is set to logic ‘1’, the ADC data is fed to the DAC input.", 20 ~{PDWN} (in) "Power Down and Reset Control. When this pin is logic ‘0’, Power-Down Mode is enabled. The PCM3500 is reset on the rising edge of this signal.", 21 VOUT- (out) "Inverting output.", 22 VOUT+ (out) "Non-inverting output.", 23 AGND (power) "Analog Ground. This is the ground for the internal analog circuitry.", 24 VCC (power) "Analog Power Supply. Used to power the analog circuitry of the ADC and DAC."

## PCM3793ARHBR
designator U?
Very Low-Power Stereo CODEC with HP / Class-D Speaker Amplifier, Notch Filters, ALC and 3D Effects, 2 ADCs and 2 DACs, 93 dB DAC SNR, -40 to 85 degC, 32-pin QFN (RHB), Green (RoHS & no Sb/Br); Manufacturer: Texas Instruments; PartNumber: PCM3793ARHBR; # ADCs (typ): 2; Additional Features: 3D, EQ, Notch filters, ALC; Battery Powered: TRUE; Control Interface: SPI, I2C; DAC SNR: 93; Digital Audio Interfaces: L, R, I2S, DSP; Sampling Rate (Max) (kHz): 50; Speaker Amp Output Power(Max)(W): 0.7; DatasheetVersion: SLAS529A; PackageVersion: revD, Jun-2011; PackageReference: RHB32-3450X3450TP; PackageDescription: 32-Pin Plastic Quad Flat No-Lead, 5 x 5 mm Body, 0.5 mm Pitch, 3.45 x 3.45 mm Exposed Pad; Supplier 1: Digi-Key; Supplier Part Number 1: 296-21514-2-ND; Supplier 2: Digi-Key; Supplier Part Number 2: 296-21514-1-ND; Supplier 3: Digi-Key; Supplier Part Number 3: 296-21514-6-ND; Supplier 4: Newark; Supplier Part Number 4: 30M1567; Supplier 5: Mouser; Supplier Part Number 5: 595-PCM3793ARHBR; # DACs: 2; Headphone Driver: TRUE; Speaker Amp Ouputs: 2; Speaker Amp Type: Class-D; Mounting Technology: Surface Mount; Code_JEDEC: MO-220; ComponentLink1Description: Datasheet; ComponentLink1URL: http://www.ti.com/general/docs/lit/getliterature.tsp?genericPartNumber=PCM3793A&fileType=pdf
footprint RHB32-3450X3450TP (QFN, 32-Leads, Body 5x5mm, Pitch 0.5mm, Thermal Pad 3.45x3.45mm, TI Recommended)
pins: 1 BCK (io) "Serial bit clock", 2 DIN (in) "Serial audio data input", 3 DOUT (out) "Serial audio data output", 4 VIO (power) "Power supply for digital I/O", 5 VDD (power) "Power supply for digital core", 6 DGND (power) "Digital ground", 7 SCKI (in) "System clock", 8 HDTI (in) "Headphone plug insertion detection", 9 HPCOM/MONO (out) "Headphone common/mono line output", 10 SPORN (out) "Speaker output R-channel for negative (PCM3793A)", 11 SPORP (out) "Speaker output R-channel for positive (PCM3793A)", 12 VPA (power) "Power supply for power amplifier", 13 PGND (power) "Ground for speaker power amplifier", 14 SPOLN (out) "Speaker output L-channel for negative (PCM3793A)", 15 SPOLP (out) "Speaker output L-channel for positive (PCM3793A)", 16 HPOR/LOR (out) "Headphone/lineout for L-channel", 17 HPOL/LOL (out) "Headphone/lineout for R-channel", 18 VCOM "Analog common voltage", 19 AGND (power) "Ground for analog", 20 VCC (power) "Analog power supply", 21 MICB (out) "Microphone bias source output", 22 AIN3R (in) "Analog input 3 for R-channel", 23 AIN3L (in) "Analog input 3 for L-channel", 24 AIN2R (in) "Analog input 2 for R-channel", 25 AIN2L (in) "Analog input 2 for L-channel", 26 AIN1R (in) "Analog input 1 for R-channel", 27 AIN1L (in) "Analog input 1 for L-channel", 28 MODE (in) "Two- or three-wire interface selection (LOW: SPI, HIGH: I2C)", 29 MS/ADR (in) "Mode control select for three-wire/two-wire interface", 30 MD/SDA (io) "Mode control data for three-wire/two-wire interface", 31 MC/SCL (in) "Mode control clock for three-wire/two-wire interface", 32 LRCK (io) "Left and right channel clock", 33 EP "Exposed Thremal Pad"

## PCM3793ARHBRG4
designator U?
Very Low-Power Stereo CODEC with HP / Class-D Speaker Amplifier, Notch Filters, ALC and 3D Effects, 2 ADCs and 2 DACs, 93 dB DAC SNR, -40 to 85 degC, 32-pin QFN (RHB), Green (RoHS & no Sb/Br); Manufacturer: Texas Instruments; PartNumber: PCM3793ARHBRG4; # ADCs (typ): 2; Additional Features: 3D, EQ, Notch filters, ALC; Battery Powered: TRUE; Control Interface: SPI, I2C; DAC SNR: 93; Digital Audio Interfaces: L, R, I2S, DSP; Sampling Rate (Max) (kHz): 50; Speaker Amp Output Power(Max)(W): 0.7; DatasheetVersion: SLAS529A; PackageVersion: revD, Jun-2011; PackageReference: RHB32-3450X3450TP; PackageDescription: 32-Pin Plastic Quad Flat No-Lead, 5 x 5 mm Body, 0.5 mm Pitch, 3.45 x 3.45 mm Exposed Pad; Supplier 1: Digi-Key; Supplier Part Number 1: PCM3793ARHBRG4-ND; Supplier 2: Newark; Supplier Part Number 2: 33M9602; Supplier 3: Mouser; Supplier Part Number 3: 595-PCM3793ARHBRG4; # DACs: 2; Headphone Driver: TRUE; Speaker Amp Ouputs: 2; Speaker Amp Type: Class-D; Mounting Technology: Surface Mount; Code_JEDEC: MO-220; ComponentLink1Description: Datasheet; ComponentLink1URL: http://www.ti.com/general/docs/lit/getliterature.tsp?genericPartNumber=PCM3793A&fileType=pdf
footprint RHB32-3450X3450TP (QFN, 32-Leads, Body 5x5mm, Pitch 0.5mm, Thermal Pad 3.45x3.45mm, TI Recommended)
pins: 1 BCK (io) "Serial bit clock", 2 DIN (in) "Serial audio data input", 3 DOUT (out) "Serial audio data output", 4 VIO (power) "Power supply for digital I/O", 5 VDD (power) "Power supply for digital core", 6 DGND (power) "Digital ground", 7 SCKI (in) "System clock", 8 HDTI (in) "Headphone plug insertion detection", 9 HPCOM/MONO (out) "Headphone common/mono line output", 10 SPORN (out) "Speaker output R-channel for negative (PCM3793A)", 11 SPORP (out) "Speaker output R-channel for positive (PCM3793A)", 12 VPA (power) "Power supply for power amplifier", 13 PGND (power) "Ground for speaker power amplifier", 14 SPOLN (out) "Speaker output L-channel for negative (PCM3793A)", 15 SPOLP (out) "Speaker output L-channel for positive (PCM3793A)", 16 HPOR/LOR (out) "Headphone/lineout for L-channel", 17 HPOL/LOL (out) "Headphone/lineout for R-channel", 18 VCOM "Analog common voltage", 19 AGND (power) "Ground for analog", 20 VCC (power) "Analog power supply", 21 MICB (out) "Microphone bias source output", 22 AIN3R (in) "Analog input 3 for R-channel", 23 AIN3L (in) "Analog input 3 for L-channel", 24 AIN2R (in) "Analog input 2 for R-channel", 25 AIN2L (in) "Analog input 2 for L-channel", 26 AIN1R (in) "Analog input 1 for R-channel", 27 AIN1L (in) "Analog input 1 for L-channel", 28 MODE (in) "Two- or three-wire interface selection (LOW: SPI, HIGH: I2C)", 29 MS/ADR (in) "Mode control select for three-wire/two-wire interface", 30 MD/SDA (io) "Mode control data for three-wire/two-wire interface", 31 MC/SCL (in) "Mode control clock for three-wire/two-wire interface", 32 LRCK (io) "Left and right channel clock", 33 EP "Exposed Thremal Pad"